# Altium schematic symbol library SHARP-LHF00L10.schlib: 1 symbol
Pins are listed as number, name and electrical type; pins without a type are passive.

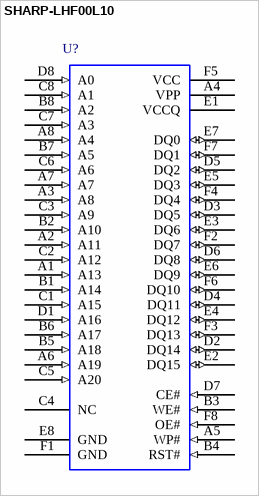
[diagram p0: symbol SHARP-LHF00L10]

## SHARP-LHF00L10
designator U?  (value not drawn)
Flash Memory 32M (2MB × 16); CircuitryPartsPN: SHARP-LHF00L10; ManufacturerPN: LHF00L10; Manufacturer: Sharp Microelectronics; CategoryI: Integrated Circuits (ICs); SchematicRev: A; DesignedBy: Circuitry Parts; MfgURL: http://www.sharpsma.com/; PackageName: CSP48; FootprintName: *; CategoryII: Memory; Value: *; DesignedOn: 7/19/2005 11:03:50 AM
pins: A1 A13 (in), A2 A11 (in), A3 A8 (in), A4 VPP (power), A5 WP# (in), A6 A19 (in), A7 (in), A8 A4 (in), B1 A14 (in), B2 A10 (in), B3 WE# (in), B4 RST# (in), B5 A18 (in), B6 A17 (in), B7 A5 (in), B8 A2 (in), C1 A15 (in), C2 A12 (in), C3 A9 (in), C4 NC, C5 A20 (in), C6 A6 (in), C7 A3 (in), C8 A1 (in), D1 A16 (in), D2 DQ14 (io), D3 DQ5 (io), D4 DQ11 (io), D5 DQ2 (io), D6 DQ8 (io), D7 CE# (in), D8 A0 (in), E1 VCCQ (power), E2 DQ15 (io), E3 DQ6 (io), E4 DQ12 (io), E5 DQ3 (io), E6 DQ9 (io), E7 DQ0 (io), E8 GND (power), F1 GND (power), F2 DQ7 (io), F3 DQ13 (io), F4 DQ4 (io), F5 VCC (power), F6 DQ10 (io), F7 DQ1 (io), F8 OE# (in)